# EAGLE library part MCP6024-E/SL (library cpsmv)
Op Amps
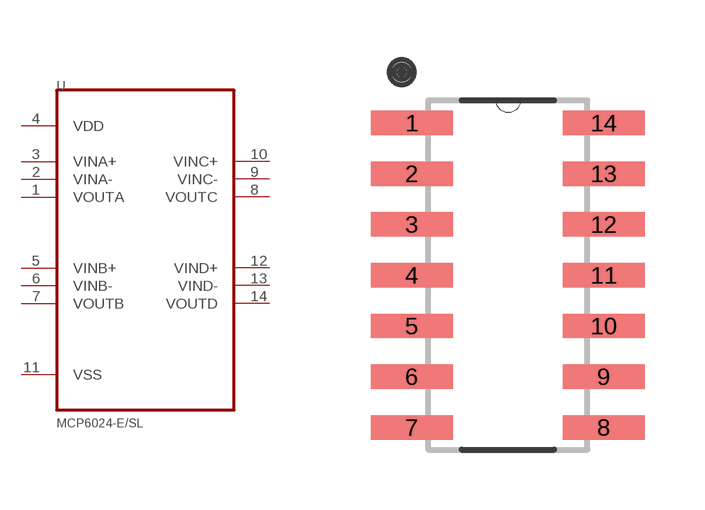
[diagram p3: symbol with the pads of SOIC127P600X175-14N; footprint SOIC127P600X175-14N]

Designator prefix U

## MCP6024-E/SL (DATASHEET_LINK: http://ww1.microchip.com/downloads/en/DeviceDoc/21685d.pdf; MANUFACTURER: Microchip; MANUFACTURER_PN: MCP6024-E/SL; PACKAGE: SOIC-14; SUPPLIER: Digi-Key; SUPPLIER_PN: MCP6024-E/SL-ND)  [SOIC127P600X175-14N]
1  VOUTA  out
2  VINA-  in
3  VINA+  in
4  VDD  pwr
5  VINB+  in
6  VINB-  in
7  VOUTB  out
8  VOUTC  out
9  VINC-  in
10  VINC+  in
11  VSS  pwr
12  VIND+  in
13  VIND-  in
14  VOUTD  out

## Footprint SOIC127P600X175-14N (pad centres in mm)
smd 2.057 x 0.61: 1 -4.801,7.62; 2 -4.801,6.35; 3 -4.801,5.08; 4 -4.801,3.81; 5 -4.801,2.54; 6 -4.801,1.27; 7 -4.801,0; 8 0,0; 9 0,1.27; 10 0,2.54; 11 0,3.81; 12 0,5.08; 13 0,6.35; 14 0,7.62